# EAGLE library part QUECTEL-L80 (library quectel)
Description: L80 is an ultra slim GPS POT (Patch on Top) module with an embedded 15.0 × 15.0 × 4.0mm patch antenna. This space-saving design makes L80 become the perpect module for the miniature devices. Adopted by LCC package and integrated with patch antenna, L80 has exceptional performance both in acquisition and tracking. Combining advanced AGPS called EASY™ (Embedded Assist System) and proven AlwaysLocate™ technology.
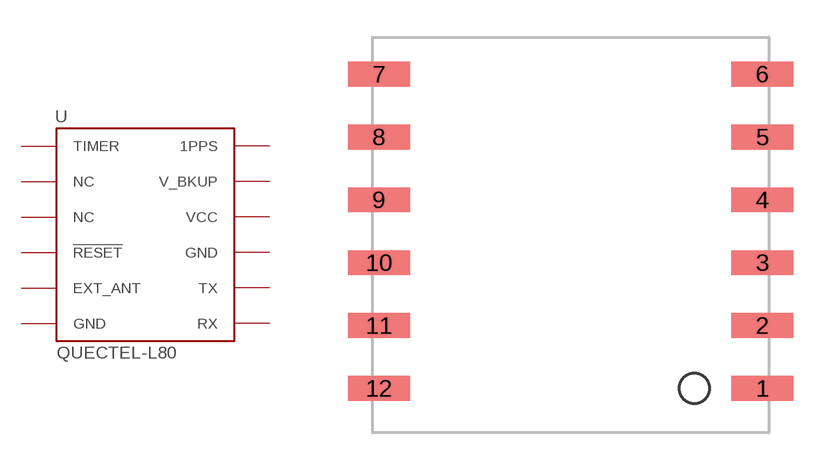
[diagram p0: symbol with the pads of QUECTEL-L80; footprint QUECTEL-L80]

Designator prefix U

## QUECTEL-L80  [QUECTEL-L80]
1  RX  in
2  TX  out
3  GND  pwr
4  VCC  pwr
5  V_BKUP  pwr
6  1PPS
7  TIMER
8  NC  nc
9  NC  nc
10  !RESET  in
11  EXT_ANT
12  GND  pwr

## Footprint QUECTEL-L80 (pad centres in mm)
Description: The footprint for Quectel L80 GPS module.
smd 2.5 x 1: 1 7.75,-6.36; 2 7.75,-3.82; 3 7.75,-1.28; 4 7.75,1.26; 5 7.75,3.8; 6 7.75,6.34; 7 -7.75,6.34; 8 -7.75,3.8; 9 -7.75,1.26; 10 -7.75,-1.28; 11 -7.75,-3.82; 12 -7.75,-6.36